# EAGLE library part LM393BIDR (library ds_ic_opa)
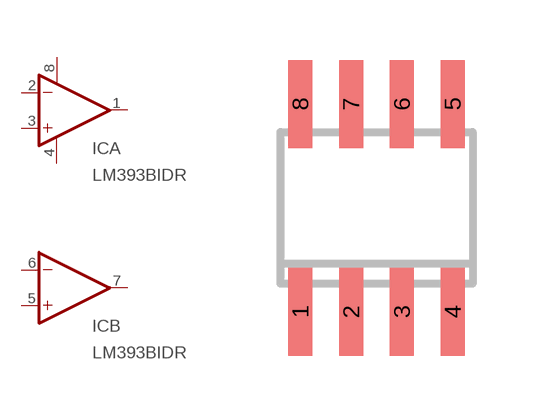
[diagram p15: symbol with the pads of SO8; footprint SO8]

Designator prefix IC; gates A=OPA_PWR B=OPA

## LM393BIDR (DATASHEET: https://www.ti.com/lit/ds/symlink/lm393.pdf; DESCRIPTION: -40℃~+85℃ 1us 2 3.5nA 370uV 400uA TTL SOIC-8 Comparators ROHS; LCSC_PART: C2865059; MANUFACTURER: Texas Instruments; MPN: LM393BIDR; ROHS: YES; VALUE: LM393BIDR)  [SO8]
1  A:OUT  out
2  A:-IN  in
3  A:+IN  in
4  A:V-  pwr
5  B:+IN  in
6  B:-IN  in
7  B:OUT  out
8  A:V+  pwr

## Footprint SO8 (pad centres in mm)
SMALL OUTLINE INTEGRATED CIRCUIT
smd 0.6 x 2.2: 1 -1.905,-2.6; 2 -0.635,-2.6; 3 0.635,-2.6; 4 1.905,-2.6; 5 1.905,2.6; 6 0.635,2.6; 7 -0.635,2.6; 8 -1.905,2.6